# Altium footprint library Tantalum Capacitor.PcbLib: 6 footprints
Each footprint in its own frame and in the unit in brackets; x right, y up, seen from the top. Pads: shape width x height; smd on the part's side, far side on the other; paste and mask are expansions set on the pad; w line width, h text height; cw(c..) or ccw(c..) is an arc to the next point about the centre after c.
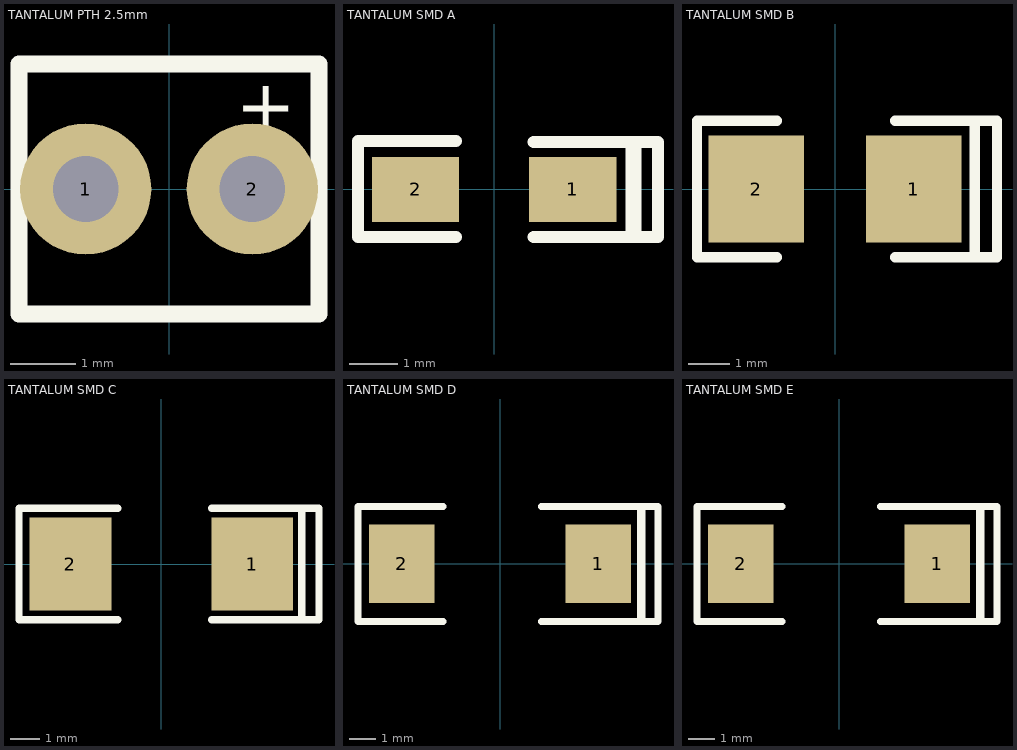
[diagram p0: the footprints below, top view; thin cyan lines are the x and y axes]

## TANTALUM PTH 2.5mm [mm]
pads (2):
  round 2 hole 1: 1(-1.27,0) 2(1.27,0)
Top Overlay:
  lines w0.254: -2.286,-1.905 2.286,-1.905 2.286,1.905 -2.286,1.905 -2.286,-1.905
  text "+" at 1.016,0.883 h0.8
3D body "Cap Tan TH –Leads L3,5mm Radial Dipped T350.stp": height 7.6, standoff -3.15, extent -2.03,-2.03 2.03,2.027

## TANTALUM SMD A [mil] "SMD TIPO A 3.2x1.6x1.6"
pads (2):
  rect 71.5x53.5 smd: 1(64.5,0) 2(-64.5,0)
Top Overlay:
  lines w10: -31.5,-39 -111.9,-39 -111.9,39.8 -31.5,39.8 ; 32.5,-39 134.5,-39 134.5,39 32.5,39
  lines w13: 114.5,-37 114.5,37
3D body "ctantal_case-a_l3-2_w1-6_h1-6.stp": height 62.99, standoff 0, extent -62.99,-31.5 62.99,31.5

## TANTALUM SMD B [mm] "SMD TIPO B 3.5x2.8x1.9"
pads (2):
  rect 2.3x2.6 smd: 1(1.905,0) 2(-1.905,0)
Top Overlay:
  lines w0.254: -1.412,-1.65 -3.339,-1.65 -3.339,1.65 -1.412,1.65 ; 1.458,-1.65 3.385,-1.65 ; 1.458,1.65 3.385,1.65 ; 3.385,-1.65 3.918,-1.65 3.918,1.65 3.385,1.65 ; 3.385,-1.65 3.385,1.65
3D body "ctantal_case-b_l3-5_w2-8_h1-9.stp": height 1.9, standoff 0, extent -1.75,-1.4 1.75,1.4

## TANTALUM SMD C [mm] "SMD TIPO C 6.0x3.2x2.2"
pads (2):
  rect 2.8x3.2 smd: 1(3.111,0) 2(-3.111,0)
Top Overlay:
  lines w0.254: -1.492,-1.905 -4.87,-1.905 -4.87,1.905 -1.492,1.905 ; 1.721,-1.905 4.807,-1.905 4.807,1.905 1.721,1.905 ; 4.763,-1.905 5.397,-1.905 5.397,1.905 4.763,1.905
3D body "ctantal_case-c_l6-0_w3-2_h2-5.stp": height 2.5, standoff 0, extent -3,-1.6 3,1.6

## TANTALUM SMD D [mil] "SMD TIPO D 7.3x4.3x2.4"
pads (2):
  rect 98.42x118.5 smd: 1(147.5,0) 2(-147.5,0)
Top Overlay:
  lines w10: -85.5,-87 -213.5,-87 -213.5,86 -85.5,86 ; 62.5,-87 62.2,-87 237.5,-87 237.5,86 187.4,86 62.2,86 62.5,86
  lines w13: 212.5,-85 212.5,84.29
3D body "ctantal_case-d_l7-3_w4-3_h2-8.stp": height 110.24, standoff 0, extent -143.7,-84.65 143.7,84.65

## TANTALUM SMD E [mil] "SMD TIPO E  7.3x4.3x4.1"
pads (2):
  rect 98.42x118.5 smd: 1(147.5,0) 2(-147.5,0)
Top Overlay:
  lines w10: -85.5,-87 -213.5,-87 -213.5,86 -85.5,86 ; 62.5,-87 62.2,-87 237.5,-87 237.5,86 187.4,86 62.2,86 62.5,86
  lines w13: 212.5,-85 212.5,84.29
3D body "ctantal_case-d_l7-3_w4-3_h2-8.stp": height 110.24, standoff 0, extent -143.7,-84.65 143.7,84.65